# EAGLE library part SOFT-POWER_BUTTON (library Soft-power-button_library_v5)
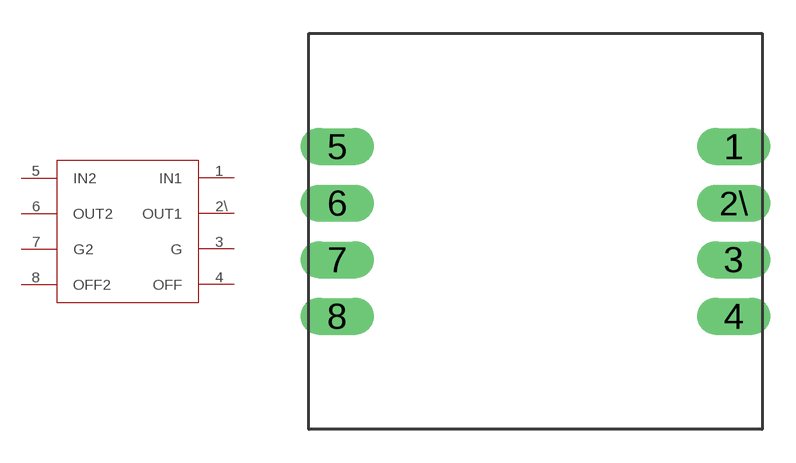
[diagram p0: symbol with the pads of ADAFRUIT-SOFT-POWER-BUTTON_FOOTPRINT; footprint ADAFRUIT-SOFT-POWER-BUTTON_FOOTPRINT]

Designator prefix SPB

## SOFT-POWER_BUTTON  [ADAFRUIT-SOFT-POWER-BUTTON_FOOTPRINT]
1  IN1  in
2\  OUT1  out
3  G  pwr
4  OFF
5  IN2  in
6  OUT2  out
7  G2  pwr
8  OFF2

## Footprint ADAFRUIT-SOFT-POWER-BUTTON_FOOTPRINT (pad centres in mm)
drill 1.016 pad 1.651 long: 1 8.89,3.81; 2\ 8.89,1.27; 3 8.89,-1.27; 4 8.89,-3.81; 5 -8.89,3.81; 6 -8.89,1.27; 7 -8.89,-1.27; 8 -8.89,-3.81